# Altium schematic symbol library CLMVC-FKA-CL1D1L71BB7C3C3.SchLib: 1 symbol
Pins are listed as number, name and electrical type; pins without a type are passive.

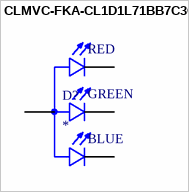
[diagram p0: symbol CLMVC-FKA-CL1D1L71BB7C3C3]

## CLMVC-FKA-CL1D1L71BB7C3C3
designator D?
Red, Green, Blue (RGB) 622nm Red, 530nm Green, 470nm Blue LED Indication - Discrete 2V Red, 3V Green, 3V Blue 4-SMD, J-Lead; MP: CLMVC-FKA-CL1D1L71BB7C3C3; MF: Cree Inc.; SnapEDA_Link: https://www.snapeda.com/parts/CLMVC-FKA-CL1D1L71BB7C3C3/Cree%20Inc./view-part/3120624/?ref=snap; Package: SMD-4 Cree Inc.; Check_prices: https://www.snapeda.com/parts/CLMVC-FKA-CL1D1L71BB7C3C3/Cree%20Inc./view-part/3120624/?ref=eda; Value: *; Purchase-URL: https://pricing.snapeda.com/search/part/CLMVC-FKA-CL1D1L71BB7C3C3/?ref=eda; Availability: Warning; Price: None
footprint LED_CLMVC-FKA-CL1D1L71BB7C3C3
pins: 1 A, 2 B_C, 3 G_C, 4 R_C
text: RED; GREEN; BLUE